# Altium schematic symbol library pedals-transformer.SCHLIB: 10 symbols
Pins are listed as number, name and electrical type; pins without a type are passive.

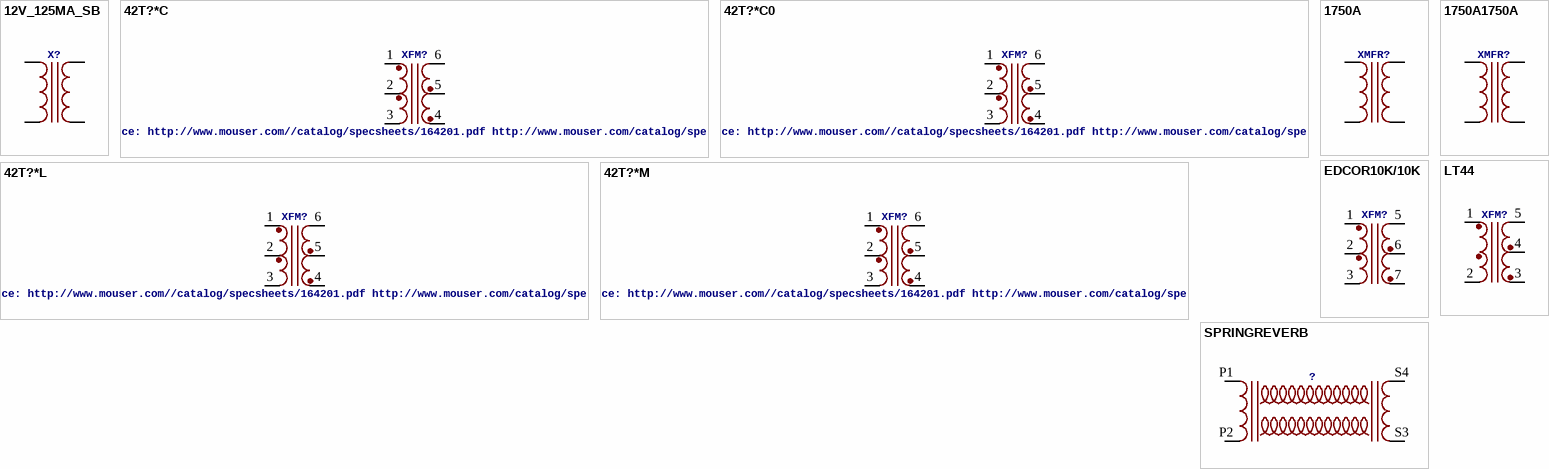
[diagram p0: symbols 12V_125MA_SB to SPRINGREVERB]

## 12V_125MA_SB
designator X?
footprint SMALLBEAR
pins: P$1 S1, P$5 S2, P$7 P1, P$9 P2

## 42T?*C
designator XFM?, comment Xicon Micro-Mini EI-12 Audio Transformers 42TL/42TC/42TM Series   Source: http://www.mouser.com//catalog/specsheets/164201.pdf http://www.mouser.com/catalog/specsheets/114225.pdf http://www.mouser.com/catalog/specsheets/164267.pdf
footprint 42TC
pins: 1, 2, 3, 4, 5, 6

## 42T?*C0
designator XFM?, comment Xicon Micro-Mini EI-12 Audio Transformers 42TL/42TC/42TM Series   Source: http://www.mouser.com//catalog/specsheets/164201.pdf http://www.mouser.com/catalog/specsheets/114225.pdf http://www.mouser.com/catalog/specsheets/164267.pdf
footprint 42TC
pins: 1, 2, 3, 4, 5, 6

## 42T?*L
designator XFM?, comment Xicon Micro-Mini EI-12 Audio Transformers 42TL/42TC/42TM Series   Source: http://www.mouser.com//catalog/specsheets/164201.pdf http://www.mouser.com/catalog/specsheets/114225.pdf http://www.mouser.com/catalog/specsheets/164267.pdf
footprint 42TL
pins: 1, 2, 3, 4, 5, 6

## 42T?*M
designator XFM?, comment Xicon Micro-Mini EI-12 Audio Transformers 42TL/42TC/42TM Series   Source: http://www.mouser.com//catalog/specsheets/164201.pdf http://www.mouser.com/catalog/specsheets/114225.pdf http://www.mouser.com/catalog/specsheets/164267.pdf
footprint 42TM
pins: 1, 2, 3, 4, 5, 6

## 1750A
designator XMFR?
footprint 4PAD
pins: P1, P2, S3 S1, S4 S2

## 1750A1750A
designator XMFR?
footprint 1750A
pins: P1, P2, S1, S2

## EDCOR10K/10K
designator XFM?
footprint EDCOR10K/10K
pins: 1, 2, 3, 5 6, 6 5, 7 4

## LT44
designator XFM?
footprint 42TL2
pins: 1, 2, 3, 4, 5

## SPRINGREVERB
designator ?
footprint 4PAD
pins: P1, P2, S3, S4